# Altium schematic symbol library ArduinoClone.Schlib: 1 symbol
Pins are listed as number, name and electrical type; pins without a type are passive.

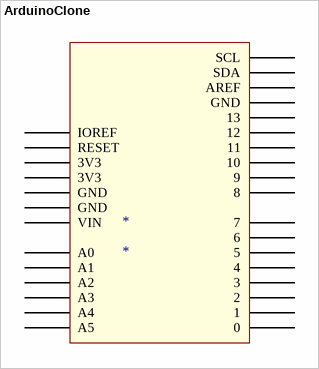
[diagram p0: symbol ArduinoClone]

## ArduinoClone
designator *
pins: 0, 1, 2, 3, 3V3, 3V3, 4, 5, 6, 7, 8, 9, 10, 11, 12, 13, A0, A1, A2, A3, A4, A5, AREF, GND, GND, GND, IOREF, RESET, SCL, SDA, VIN